# Altium footprint library TE_CONN_120953-5.PcbLib: 1 footprints
Each footprint in its own frame and in the unit in brackets; x right, y up, seen from the top. Pads: shape width x height; smd on the part's side, far side on the other; paste and mask are expansions set on the pad; w line width, h text height; cw(c..) or ccw(c..) is an arc to the next point about the centre after c.
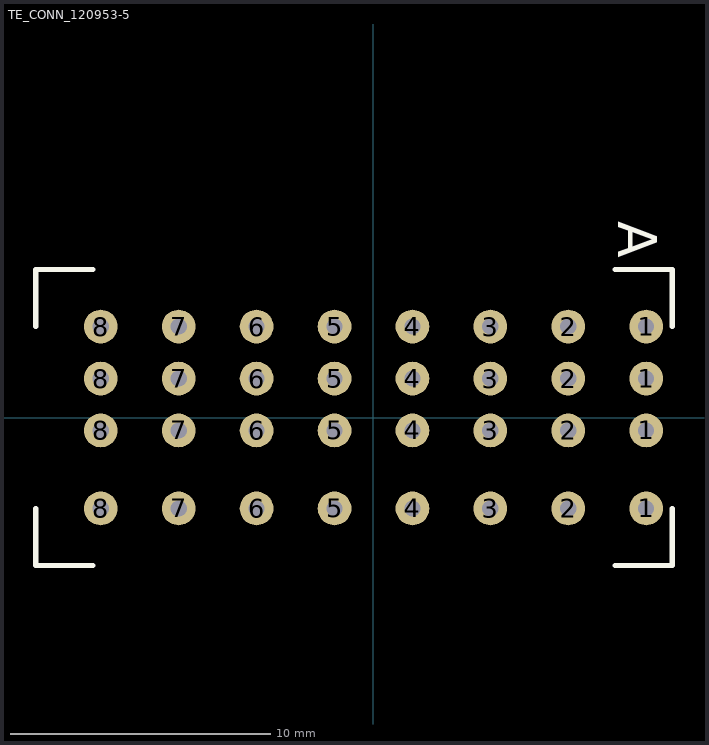
[diagram p0: the footprint, top view; thin cyan lines are the x and y axes]

## TE_CONN_120953-5 [mm] "TE Connectivity 120953-5 8-Pos Blade Receptacle"
pads (32):
  round 1.3 hole 0.615: 1(10.5,-3.5) 1(10.5,-0.5) 1(10.5,1.5) 1(10.5,3.5)
  round 1.3 hole 0.625: 2(7.5,-3.5) 2(7.5,-0.5) 2(7.5,1.5) 2(7.5,3.5) 3(4.5,-3.5) 3(4.5,-0.5) 3(4.5,1.5) 3(4.5,3.5) 4(1.5,-3.5) 4(1.5,-0.5) 4(1.5,1.5) 4(1.5,3.5) 5(-1.5,-3.5) 5(-1.5,-0.5) 5(-1.5,1.5) 5(-1.5,3.5) 6(-4.5,-3.5) 6(-4.5,-0.5) 6(-4.5,1.5) 6(-4.5,3.5) 7(-7.5,-3.5) 7(-7.5,-0.5) 7(-7.5,1.5) 7(-7.5,3.5) 8(-10.5,-3.5) 8(-10.5,-0.5) 8(-10.5,1.5) 8(-10.5,3.5)
Top Overlay:
  lines w0.2: -13,-3.5 -13,-5.7 -10.8,-5.7 ; -13,3.5 -13,5.7 -10.8,5.7 ; 9.3,-5.7 11.5,-5.7 11.5,-3.5 ; 9.3,5.7 11.5,5.7 11.5,3.5
  text "A" at 9.43,7.55 h1.5
3D body "TE_CONN_120953-5.stp": height 12.15, standoff -3.7, extent -13,-5.675 11.5,5.675